# Altium schematic symbol library 20021321-00010C1LF.SchLib: 1 symbol
Pins are listed as number, name and electrical type; pins without a type are passive.

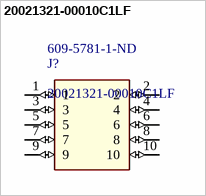
[diagram p0: symbol 20021321-00010C1LF]

## 20021321-00010C1LF
designator J?  Supplier Part Number 1: 609-5781-1-ND
CONN RCPT 10POS 0.05 GOLD SMD; Manufacturer: Amphenol FCI; Connector Type: Receptacle,Socket; Number of Positions: 10; Insulation Resistance: 1GR; Max Voltage Rating (AC): 125V; Contact Resistance: 30mR; Current Rating: 1A; Pitch: 1.27mm; Row Spacing: 0.05inch; Supplier 1: Digi-Key; Manufacturer Part Number: 20021321-00010C1LF; Stock 1: 1520; Pricing 1: 1 = 0,99000, 10 = 0,86900, 100 = 0,75000 (USD); RoHS: Yes; Mount: Surface Mount; Housing Color: Black; Contact Plating: Gold; Contact Material: Bronze,Copper Alloy; Housing Material: Thermoplastic; Color: Black; Min Operating Temperature: -55°C; Max Operating Temperature: 125°C; Orientation: Straight; Termination: Solder; Packaging: Tape and Reel; Package Quantity: 700; Number of Rows: 2; Contact Gender: Female; Voltage Rating: 125V; Length: 13.16mm; Depth: 3mm; Flammability Rating: UL94 V-0; ComponentLink1URL: https://datasheet.ciiva.com/18483/20021321-18483977.pdf?src-supplier=Digi-Key; ComponentLink1Description: https://datasheet.ciiva.com/18483/20021321-18483977.pdf?src-supplier=Digi-Key; ComponentLink2URL: https://datasheet.ciiva.com/15404/20021321-15404619.pdf?src-supplier=Mouser; ComponentLink2Description: https://datasheet.ciiva.com/15404/20021321-15404619.pdf?src-supplier=Mouser; Value: 20021321-00010C1LF
footprint FLE-105-01-XX-DV
pins: 1 (io), 2 (io), 3 (io), 4 (io), 5 (io), 6 (io), 7 (io), 8 (io), 9 (io), 10 (io)